# EAGLE library part DSPIC33FJ12MC201-I/SO (library Microchip_By_element14_Batch_1)
IC, DSC
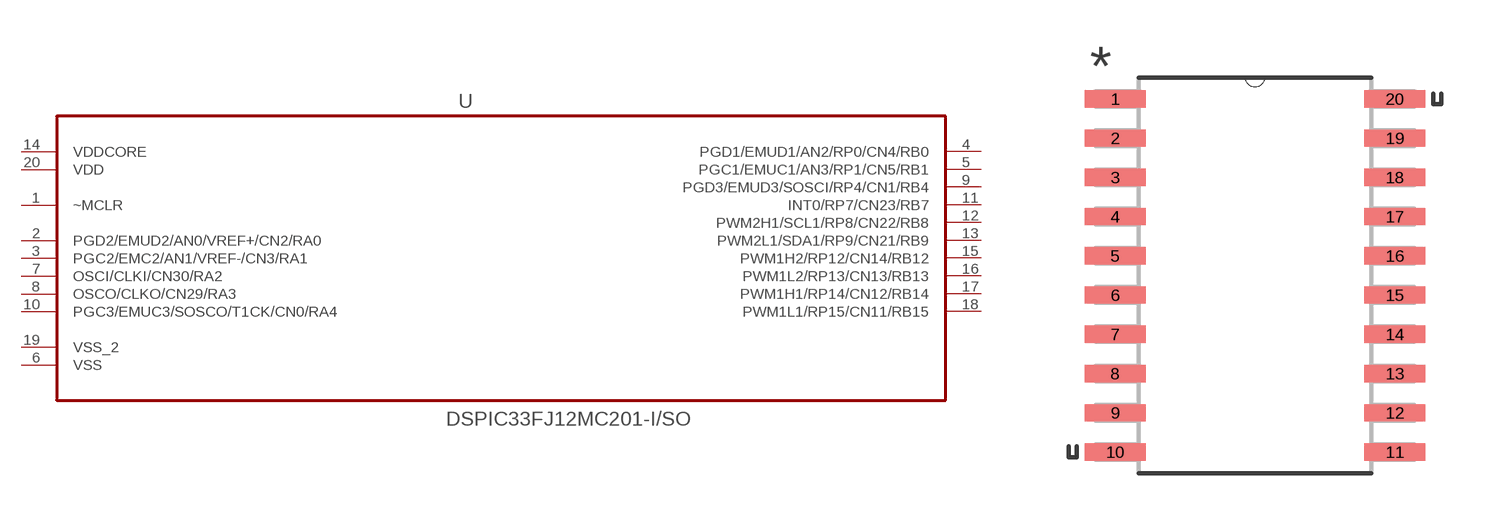
[diagram p373: symbol with the pads of SOIC127P1030X265-20N; footprint SOIC127P1030X265-20N]

Designator prefix -

## DSPIC33FJ12MC201-I/SO (DESCRIPTION: IC, DSC; MPN: DSPIC33FJ12MC201-I/SO; OC_FARNELL: 1439608; OC_NEWARK: 26M9199; PACKAGE: SOIC-20; SUPPLIER: Microchip)  [SOIC127P1030X265-20N]
1  ~MCLR  in
2  PGD2/EMUD2/AN0/VREF+/CN2/RA0
3  PGC2/EMC2/AN1/VREF-/CN3/RA1
4  PGD1/EMUD1/AN2/RP0/CN4/RB0
5  PGC1/EMUC1/AN3/RP1/CN5/RB1
6  VSS  pas
7  OSCI/CLKI/CN30/RA2
8  OSCO/CLKO/CN29/RA3
9  PGD3/EMUD3/SOSCI/RP4/CN1/RB4
10  PGC3/EMUC3/SOSCO/T1CK/CN0/RA4
11  INT0/RP7/CN23/RB7
12  PWM2H1/SCL1/RP8/CN22/RB8
13  PWM2L1/SDA1/RP9/CN21/RB9
14  VDDCORE  pwr
15  PWM1H2/RP12/CN14/RB12
16  PWM1L2/RP13/CN13/RB13
17  PWM1H1/RP14/CN12/RB14
18  PWM1L1/RP15/CN11/RB15
19  VSS_2  pas
20  VDD  pwr

## Footprint SOIC127P1030X265-20N (pad centres in mm)
smd 1.981 x 0.559: 1 -4.521,5.715; 2 -4.521,4.445; 3 -4.521,3.175; 4 -4.521,1.905; 5 -4.521,0.635; 6 -4.521,-0.635; 7 -4.521,-1.905; 8 -4.521,-3.175; 9 -4.521,-4.445; 10 -4.521,-5.715; 11 4.521,-5.715; 12 4.521,-4.445; 13 4.521,-3.175; 14 4.521,-1.905; 15 4.521,-0.635; 16 4.521,0.635; 17 4.521,1.905; 18 4.521,3.175; 19 4.521,4.445; 20 4.521,5.715